# EAGLE library part BQ24088 (library Chargers)
750mA SINGLE-CHIP, LI-ION AND LI-POL CHARGER IC WITH THERMAL REGULATION
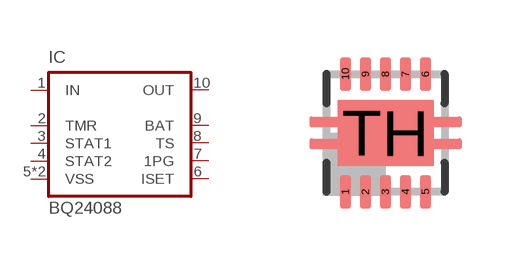
[diagram p0: symbol with the pads of DRC-S-PVSON-N10; footprint DRC-S-PVSON-N10]

Designator prefix IC

## BQ24088  [DRC-S-PVSON-N10]
1  IN  in
2  TMR
3  STAT1
4  STAT2
5  VSS  pwr
6  ISET  in
7  1PG  in
8  TS  in
9  BAT
10  OUT  out
TH  VSS  pwr

## Footprint DRC-S-PVSON-N10 (pad centres in mm)
DRK (S-PDSO-N10) Source: www.ti.com .. bq27010.pdf changed 2011-11-09
smd 0.28 x 0.85: 1 -1,-1.475; 2 -0.5,-1.475; 3 0,-1.475; 4 0.5,-1.475; 5 1,-1.475; 6 1,1.475; 7 0.5,1.475; 8 0,1.475; 9 -0.5,1.475; 10 -1,1.475
smd 2.4 x 1.65: TH 0,0